# Altium footprint library Communication.PcbLib: 5 footprints
Each footprint in its own frame and in the unit in brackets; x right, y up, seen from the top. Pads: shape width x height; smd on the part's side, far side on the other; paste and mask are expansions set on the pad; w line width, h text height; cw(c..) or ccw(c..) is an arc to the next point about the centre after c.
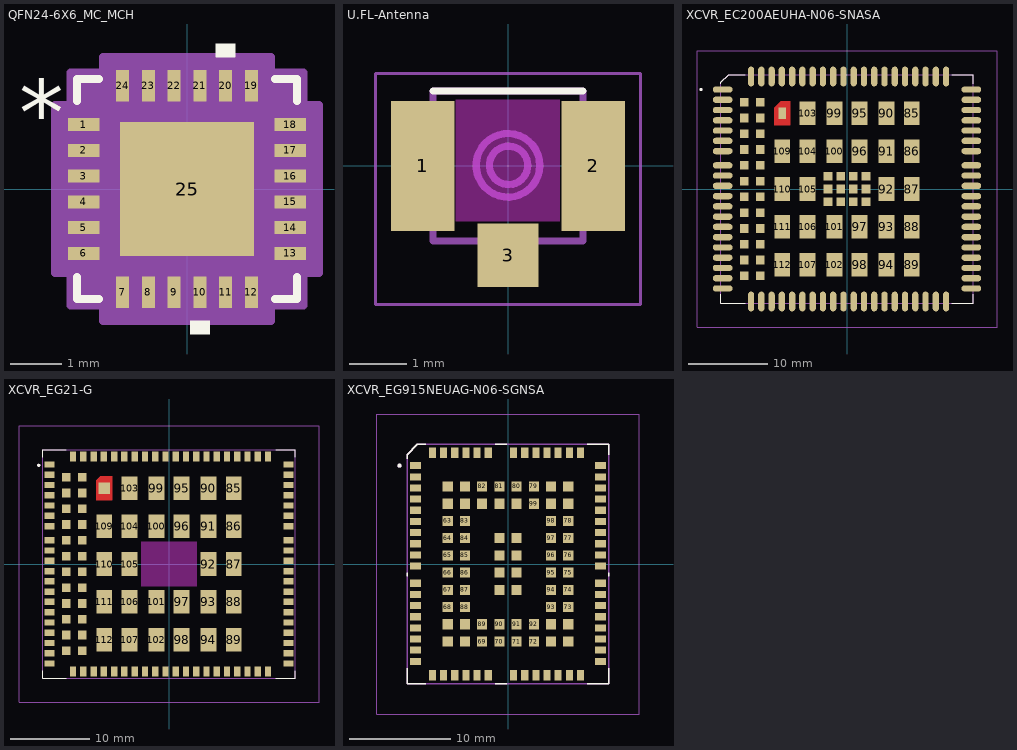
[diagram p0: the footprints below, top view; thin cyan lines are the x and y axes]

## QFN24-6X6_MC_MCH [mm]
pads (25):
  rect 0.605x0.255 smd paste+0 mask+0: 1(-2.004,1.25) 2(-2.004,0.75) 3(-2.004,0.25) 4(-2.004,-0.25) 5(-2.004,-0.75) 6(-2.004,-1.25) 13(2.004,-1.25) 14(2.004,-0.75) 15(2.004,-0.25) 16(2.004,0.25) 17(2.004,0.75) 18(2.004,1.25)
  rect 0.255x0.605 smd paste+0 mask+0: 7(-1.25,-2.004) 8(-0.75,-2.004) 9(-0.25,-2.004) 10(0.25,-2.004) 11(0.75,-2.004) 12(1.25,-2.004) 19(1.25,2.004) 20(0.75,2.004) 21(0.25,2.004) 22(-0.25,2.004) 23(-0.75,2.004) 24(-1.25,2.004)
  rect 2.591x2.591 smd paste-1.295 mask+0: 25(0,0)
Top Overlay:
  region: 0.941,2.561 0.56,2.561 0.56,2.815 0.941,2.815
  region: 0.44,-2.561 0.059,-2.561 0.059,-2.815 0.44,-2.815
  lines w0.152: -2.134,-1.71 -2.134,-2.134 -1.71,-2.134 ; -2.134,1.71 -2.134,2.134 -1.71,2.134 ; 1.71,-2.134 2.134,-2.134 2.134,-1.71 ; 1.71,2.134 2.134,2.134 2.134,1.71
  text "*" at -3.259,0.865 h1.27
Top Paste:
  region: 1.195,-0.1 0.1,-0.1 0.1,-1.195 1.195,-1.195
  region: 1.195,1.195 0.1,1.195 0.1,0.1 1.195,0.1
  region: -0.1,-0.1 -1.195,-0.1 -1.195,-1.195 -0.1,-1.195
  region: -0.1,1.195 -1.195,1.195 -1.195,0.1 -0.1,0.1
Mechanical 13:
  lines w0.025: -2.007,0.737 -0.737,2.007 ; -2.007,-2.007 -2.007,2.007 2.007,2.007 2.007,-2.007 -2.007,-2.007 ; -2.007,-1.402 -2.007,-1.098 -2.007,-1.402 ; -2.007,-0.902 -2.007,-0.598 -2.007,-0.902 ; -2.007,-0.402 -2.007,-0.098 -2.007,-0.402 ; -2.007,0.098 -2.007,0.402 -2.007,0.098 ; -2.007,0.598 -2.007,0.902 -2.007,0.598 ; -2.007,1.098 -2.007,1.402 -2.007,1.098 ; -1.402,-2.007 -1.098,-2.007 -1.402,-2.007 ; -1.402,2.007 -1.098,2.007 -1.402,2.007 ; -0.902,-2.007 -0.598,-2.007 -0.902,-2.007 ; -0.902,2.007 -0.598,2.007 -0.902,2.007 ; -0.402,-2.007 -0.098,-2.007 -0.402,-2.007 ; -0.402,2.007 -0.098,2.007 -0.402,2.007 ; 0.098,-2.007 0.402,-2.007 0.098,-2.007 ; 0.098,2.007 0.402,2.007 0.098,2.007 ; 0.598,-2.007 0.902,-2.007 0.598,-2.007 ; 0.598,2.007 0.902,2.007 0.598,2.007 ; 1.098,-2.007 1.402,-2.007 1.098,-2.007 ; 1.098,2.007 1.402,2.007 1.098,2.007 ; 2.007,-1.402 2.007,-1.098 2.007,-1.402 ; 2.007,-0.902 2.007,-0.598 2.007,-0.902 ; 2.007,-0.402 2.007,-0.098 2.007,-0.402 ; 2.007,0.098 2.007,0.402 2.007,0.098 ; 2.007,0.598 2.007,0.902 2.007,0.598 ; 2.007,1.098 2.007,1.402 2.007,1.098
  text "*" at -2.019,0.865 h1.27
Mechanical 15:
  region: -1.631,-2.261 -2.261,-2.261 -2.261,-1.631 -2.561,-1.631 -2.561,1.631 -2.261,1.631 -2.261,2.261 -1.631,2.261 -1.631,2.561 1.631,2.561 1.631,2.261 2.261,2.261 2.261,1.631 2.561,1.631 2.561,-1.631 2.261,-1.631 2.261,-2.261 1.631,-2.261 1.631,-2.561 -1.631,-2.561
  lines w0.152: -2.561,-1.631 -2.561,1.631 -2.261,1.631 -2.261,2.261 -1.631,2.261 -1.631,2.561 1.631,2.561 1.631,2.261 2.261,2.261 2.261,1.631 2.561,1.631 2.561,-1.631 2.261,-1.631 2.261,-2.261 1.631,-2.261 1.631,-2.561 -1.631,-2.561 -1.631,-2.261 -2.261,-2.261 -2.261,-1.631 -2.561,-1.631
3D body "QFN24-6X6_MC_MCH.step": height 0.92, standoff 0, extent -2.007,-2.007 2.007,2.007

## U.FL-Antenna [mm]
pads (3):
  rect 1.1x2.25 smd: 1(-1.475,0) 2(1.475,0)
  rect 1.05x1.1 smd: 3(0,-1.55)
Top Overlay:
  lines w0.127: -1.3,1.3 1.3,1.3
Keep-Out Layer:
  region: 0.9,-0.963 -0.903,-0.963 -0.903,1.15 0.9,1.15
Mechanical 13:
  circle w0.127: c0.01,0.01 r0.332
  circle w0.127: c0,0.01 r0.552
  lines w0.127: -1.33,0.88 -1.33,0.87 -1.57,0.87 -1.57,-0.87 -1.3,-0.87 ; 1.34,-0.87 1.57,-0.87 1.57,0.87 1.38,0.87 ; -1.3,-0.87 -1.3,-1.3 1.3,-1.3 1.3,1.3 -1.3,1.3 -1.3,-0.87
Mechanical 14:
  lines w0.127: 1.34,-0.91 1.34,-0.9
Mechanical 15:
  lines w0.05: -2.3,-2.4 -2.3,1.6 2.3,1.6 2.3,-2.4 -2.3,-2.4
3D body "step_temp.STEP": height 1.25, standoff 0, extent -1.5,-1.55 1.5,1.55

## XCVR_EC200AEUHA-N06-SNASA [mm]
height 2.6
pads (144):
  oval 2.5x0.8 smd paste-2: 1(-15.75,12.6) 2(-15.75,11.3) 3(-15.75,10) 4(-15.75,8.7) 5(-15.75,7.4) 6(-15.75,6.1) 7(-15.75,4.8) 8(-15.75,0.4) 9(-15.75,-0.9) 10(-15.75,-2.2) 11(-15.75,-3.5) 12(-15.75,-4.8) 13(-15.75,-6.1) 14(-15.75,-7.4) 15(-15.75,-8.7) 16(-15.75,-10) 17(-15.75,-11.3) 18(-15.75,-12.6) 37(15.75,-12.6) 38(15.75,-11.3) 39(15.75,-10) 40(15.75,-8.7) 41(15.75,-7.4) 42(15.75,-6.1) 43(15.75,-4.8) 44(15.75,-3.5) 45(15.75,-2.2) 46(15.75,-0.9) 47(15.75,0.4) 48(15.75,4.8) 49(15.75,6.1) 50(15.75,7.4) 51(15.75,8.7) 52(15.75,10) 53(15.75,11.3) 54(15.75,12.6) 141(-15.75,3) 142(-15.75,1.7) 143(15.75,1.7) 144(15.75,3)
  oval 0.8x2.5 smd paste-2: 19(-9.55,-14.25) 20(-8.25,-14.25) 21(-6.95,-14.25) 22(-5.65,-14.25) 23(-4.35,-14.25) 24(-3.05,-14.25) 25(-1.75,-14.25) 26(-0.45,-14.25) 27(0.85,-14.25) 28(2.15,-14.25) 29(3.45,-14.25) 30(4.75,-14.25) 31(6.05,-14.25) 32(7.35,-14.25) 33(8.65,-14.25) 34(9.95,-14.25) 35(11.25,-14.25) 36(12.55,-14.25) 55(12.55,14.25) 56(11.25,14.25) 57(9.95,14.25) 58(8.65,14.25) 59(7.35,14.25) 60(6.05,14.25) 61(4.75,14.25) 62(3.45,14.25) 63(2.15,14.25) 64(0.85,14.25) 65(-0.45,14.25) 66(-1.75,14.25) 67(-3.05,14.25) 68(-4.35,14.25) 69(-5.65,14.25) 70(-6.95,14.25) 71(-8.25,14.25) 72(-9.55,14.25) 113(-10.85,14.25) 114(-12.15,14.25) 115(-10.85,-14.25) 116(-12.15,-14.25)
  rect 1.1x1.1 smd paste-0.124: 73(2.4,1.6) 74(2.4,0) 75(2.4,-1.6) 76(0.8,1.6) 77(0.8,0) 78(0.8,-1.6) 79(-0.8,1.6) 80(-0.8,0) 81(-0.8,-1.6) 82(-2.4,1.6) 83(-2.4,0) 84(-2.4,-1.6)
  rect 2x3 smd paste-3: 85(8.2,9.6) 86(8.2,4.8) 87(8.2,0) 88(8.2,-4.8) 89(8.2,-9.6) 90(5,9.6) 91(5,4.8) 92(5,0) 93(5,-4.8) 94(5,-9.6) 95(1.6,9.6) 96(1.6,4.8) 97(1.6,-4.8) 98(1.6,-9.6) 99(-1.6,9.6) 100(-1.6,4.8) 101(-1.6,-4.8) 102(-1.6,-9.6) 103(-5,9.6) 104(-5,4.8) 105(-5,0) 106(-5,-4.8) 107(-5,-9.6) 109(-8.2,4.8) 110(-8.2,0) 111(-8.2,-4.8) 112(-8.2,-9.6)
  rect 1x1.5 smd paste-2 mask+0: 108(-8.2,9.6)
  rect 1.1x1.1 smd paste-2: 117(-11,11) 118(-11,9) 119(-11,7) 120(-11,5) 121(-11,3) 122(-11,1) 123(-11,-1) 124(-11,-3) 125(-11,-5) 126(-11,-7) 127(-11,-9) 128(-11,-11) 129(-13,11) 130(-13,9) 131(-13,7) 132(-13,5) 133(-13,3) 134(-13,1) 135(-13,-1) 136(-13,-3) 137(-13,-5) 138(-13,-7) 139(-13,-9) 140(-13,-11)
Top Layer:
  region: -7.2,8.1 -9.2,8.1 -9.2,10.3 -8.4,11.1 -7.2,11.1
Top Overlay:
  circle w0.2: c-18.5,12.6 r0.1
  lines w0.127: -16,-13.32 -16,-14.5 -12.87,-14.5 ; -16,13.32 -16,13.5 -15,14.5 -12.87,14.5 ; 13.27,-14.5 16,-14.5 16,-13.32 ; 13.27,14.5 16,14.5 16,13.32
Top Paste:
  drawing of 216 lines, arcs and shapes, not listed
Top Solder:
  region: -7.1,8 -9.3,8 -9.3,10.341 -8.441,11.2 -7.1,11.2
Mechanical 13:
  circle w0.2: c-18.5,12.6 r0.1
  lines w0.127: -16,-14.5 -16,13.5 -15,14.5 16,14.5 16,-14.5 -16,-14.5
Mechanical 15:
  lines w0.05: -19,-17.5 19,-17.5 19,17.5 -19,17.5 -19,-17.5
3D body "step_temp.STEP": height 2.6, standoff 0, extent -16,-14.5 16,14.5

## XCVR_EG21-G [mm]
height 2.6
pads (132):
  rect 1.25x0.8 smd paste-2: 1(-15.125,12.6) 2(-15.125,11.3) 3(-15.125,10) 4(-15.125,8.7) 5(-15.125,7.4) 6(-15.125,6.1) 7(-15.125,4.8) 8(-15.125,0.4) 9(-15.125,-0.9) 10(-15.125,-2.2) 11(-15.125,-3.5) 12(-15.125,-4.8) 13(-15.125,-6.1) 14(-15.125,-7.4) 15(-15.125,-8.7) 16(-15.125,-10) 17(-15.125,-11.3) 18(-15.125,-12.6) 37(15.125,-12.6) 38(15.125,-11.3) 39(15.125,-10) 40(15.125,-8.7) 41(15.125,-7.4) 42(15.125,-6.1) 43(15.125,-4.8) 44(15.125,-3.5) 45(15.125,-2.2) 46(15.125,-0.9) 47(15.125,0.4) 48(15.125,4.8) 49(15.125,6.1) 50(15.125,7.4) 51(15.125,8.7) 52(15.125,10) 53(15.125,11.3) 54(15.125,12.6) 141(-15.125,3) 142(-15.125,1.7) 143(15.125,1.7) 144(15.125,3)
  rect 0.8x1.25 smd paste-2: 19(-9.55,-13.625) 20(-8.25,-13.625) 21(-6.95,-13.625) 22(-5.65,-13.625) 23(-4.35,-13.625) 24(-3.05,-13.625) 25(-1.75,-13.625) 26(-0.45,-13.625) 27(0.85,-13.625) 28(2.15,-13.625) 29(3.45,-13.625) 30(4.75,-13.625) 31(6.05,-13.625) 32(7.35,-13.625) 33(8.65,-13.625) 34(9.95,-13.625) 35(11.25,-13.625) 36(12.55,-13.625) 55(12.55,13.625) 56(11.25,13.625) 57(9.95,13.625) 58(8.65,13.625) 59(7.35,13.625) 60(6.05,13.625) 61(4.75,13.625) 62(3.45,13.625) 63(2.15,13.625) 64(0.85,13.625) 65(-0.45,13.625) 66(-1.75,13.625) 67(-3.05,13.625) 68(-4.35,13.625) 69(-5.65,13.625) 70(-6.95,13.625) 71(-8.25,13.625) 72(-9.55,13.625) 113(-10.85,13.625) 114(-12.15,13.625) 115(-10.85,-13.625) 116(-12.15,-13.625)
  rect 2x3 smd paste-3: 85(8.2,9.6) 86(8.2,4.8) 87(8.2,0) 88(8.2,-4.8) 89(8.2,-9.6) 90(5,9.6) 91(5,4.8) 92(5,0) 93(5,-4.8) 94(5,-9.6) 95(1.6,9.6) 96(1.6,4.8) 97(1.6,-4.8) 98(1.6,-9.6) 99(-1.6,9.6) 100(-1.6,4.8) 101(-1.6,-4.8) 102(-1.6,-9.6) 103(-5,9.6) 104(-5,4.8) 105(-5,0) 106(-5,-4.8) 107(-5,-9.6) 109(-8.2,4.8) 110(-8.2,0) 111(-8.2,-4.8) 112(-8.2,-9.6)
  rect 1.5x1.5 smd paste-2 mask+0: 108(-8.2,9.6)
  rect 1.1x1.1 smd paste-2: 117(-11,11) 118(-11,9) 119(-11,7) 120(-11,5) 121(-11,3) 122(-11,1) 123(-11,-1) 124(-11,-3) 125(-11,-5) 126(-11,-7) 127(-11,-9) 128(-11,-11) 129(-13,11) 130(-13,9) 131(-13,7) 132(-13,5) 133(-13,3) 134(-13,1) 135(-13,-1) 136(-13,-3) 137(-13,-5) 138(-13,-7) 139(-13,-9) 140(-13,-11)
Top Layer:
  region: -7.2,8.1 -9.2,8.1 -9.2,10.6 -8.7,11.1 -7.2,11.1
Top Overlay:
  circle w0.2: c-16.5,12.5 r0.1
  lines w0.127: -16,-13.5 -16,-14.5 -13,-14.5 ; -16,13.5 -16,14.5 -13,14.5 ; 13.5,-14.5 16,-14.5 16,-13.5 ; 13.5,14.5 16,14.5 16,13.5
Top Paste:
  drawing of 216 lines, arcs and shapes, not listed
Top Solder:
  region: -7.1,8 -9.3,8 -9.3,10.7 -8.8,11.2 -7.1,11.2
Keep-Out Layer:
  region: 3.5,-2.8 -3.5,-2.8 -3.5,2.8 3.5,2.8
Mechanical 13:
  circle w0.2: c-16.5,12.5 r0.1
  lines w0.127: -16,-14.5 16,-14.5 16,14.5 -16,14.5 -16,-14.5
Mechanical 15:
  lines w0.05: -19,-17.5 19,-17.5 19,17.5 -19,17.5 -19,-17.5
3D body "step_temp.STEP": height 2.6, standoff 0, extent -16,-14.5 16,14.5

## XCVR_EG915NEUAG-N06-SGNSA [mm]
height 2.6
pads (126):
  rect 1.05x0.7 smd paste-2: 1(-9.125,9.7) 2(-9.125,8.6) 3(-9.125,7.5) 4(-9.125,6.4) 5(-9.125,5.3) 6(-9.125,4.2) 7(-9.125,3.1) 8(-9.125,2) 9(-9.125,0.9) 10(-9.125,-0.2) 11(-9.125,-1.9) 12(-9.125,-3) 13(-9.125,-4.1) 14(-9.125,-5.2) 15(-9.125,-6.3) 16(-9.125,-7.4) 17(-9.125,-8.5) 18(-9.125,-9.6) 32(9.125,-9.6) 33(9.125,-8.5) 34(9.125,-7.4) 35(9.125,-6.3) 36(9.125,-5.2) 37(9.125,-4.1) 38(9.125,-3) 39(9.125,-1.9) 40(9.125,-0.2) 41(9.125,0.9) 42(9.125,2) 43(9.125,3.1) 44(9.125,4.2) 45(9.125,5.3) 46(9.125,6.4) 47(9.125,7.5) 48(9.125,8.6) 49(9.125,9.7)
  rect 0.7x1.05 smd paste-2: 19(-7.45,-10.975) 20(-6.35,-10.975) 21(-5.25,-10.975) 22(-4.15,-10.975) 23(-3.05,-10.975) 24(-1.95,-10.975) 25(0.55,-10.975) 26(1.65,-10.975) 27(2.75,-10.975) 28(3.85,-10.975) 29(4.95,-10.975) 30(6.05,-10.975) 31(7.15,-10.975) 50(7.15,10.975) 51(6.05,10.975) 52(4.95,10.975) 53(3.85,10.975) 54(2.75,10.975) 55(1.65,10.975) 56(0.55,10.975) 57(-1.95,10.975) 58(-3.05,10.975) 59(-4.15,10.975) 60(-5.25,10.975) 61(-6.35,10.975) 62(-7.45,10.975)
  rect 1x1 smd paste-1: 63(-5.95,4.25) 64(-5.95,2.55) 65(-5.95,0.85) 66(-5.95,-0.85) 67(-5.95,-2.55) 68(-5.95,-4.25) 69(-2.55,-7.65) 70(-0.85,-7.65) 71(0.85,-7.65) 72(2.55,-7.65) 73(5.95,-4.25) 74(5.95,-2.55) 75(5.95,-0.85) 76(5.95,0.85) 77(5.95,2.55) 78(5.95,4.25) 79(2.55,7.65) 80(0.85,7.65) 81(-0.85,7.65) 82(-2.55,7.65) 83(-4.25,4.25) 84(-4.25,2.55) 85(-4.25,0.85) 86(-4.25,-0.85) 87(-4.25,-2.55) 88(-4.25,-4.25) 89(-2.55,-5.95) 90(-0.85,-5.95) 91(0.85,-5.95) 92(2.55,-5.95) 93(4.25,-4.25) 94(4.25,-2.55) 95(4.25,-0.85) 96(4.25,0.85) 97(4.25,2.55) 98(4.25,4.25) 99(2.55,5.95) 100(0.85,5.95) 101(-0.85,5.95) 102(-2.55,5.95) 103(-5.95,7.65) 104(-5.95,5.95) 105(-5.95,-5.95) 106(-5.95,-7.65) 107(-4.25,-7.65) 108(4.25,-7.65) 109(5.95,-7.65) 110(5.95,-5.95) 111(5.95,5.95) 112(5.95,7.65) 113(4.25,7.65) 114(-4.25,7.65) 115(-4.25,5.95) 116(-4.25,-5.95) 117(4.25,-5.95) 118(4.25,5.95) 119(-0.85,2.55) 120(-0.85,0.85) 121(-0.85,-0.85) 122(-0.85,-2.55) 123(0.85,-2.55) 124(0.85,-0.85) 125(0.85,0.85) 126(0.85,2.55)
Top Overlay:
  circle w0.2: c-10.7,9.7 r0.1
  lines w0.127: -9.95,-10.27 -9.95,-11.8 -8.12,-11.8 ; -9.95,-1.23 -9.95,-0.87 ; -9.95,10.37 -9.95,10.8 -8.95,11.8 -8.12,11.8 ; -1.28,-11.8 -0.12,-11.8 ; -1.28,11.8 -0.12,11.8 ; 7.82,-11.8 9.95,-11.8 9.95,-10.27 ; 7.82,11.8 9.95,11.8 9.95,10.8 ; 9.95,-1.23 9.95,-0.87
Top Paste:
  drawing of 126 lines, arcs and shapes, not listed
Mechanical 13:
  circle w0.2: c-10.7,9.7 r0.1
  lines w0.127: -9.95,-11.8 -9.95,10.8 -8.95,11.8 9.95,11.8 9.95,-11.8 -9.95,-11.8
Mechanical 15:
  lines w0.05: -12.95,-14.8 12.95,-14.8 12.95,14.8 -12.95,14.8 -12.95,-14.8
3D body "step_temp.STEP": height 2.6, standoff 0, extent -9.95,-11.8 9.95,11.8